# Altium footprint library I2C-SENSOR.PcbLib: 1 footprints
Each footprint in its own frame and in the unit in brackets; x right, y up, seen from the top. Pads: shape width x height; smd on the part's side, far side on the other; paste and mask are expansions set on the pad; w line width, h text height; cw(c..) or ccw(c..) is an arc to the next point about the centre after c.
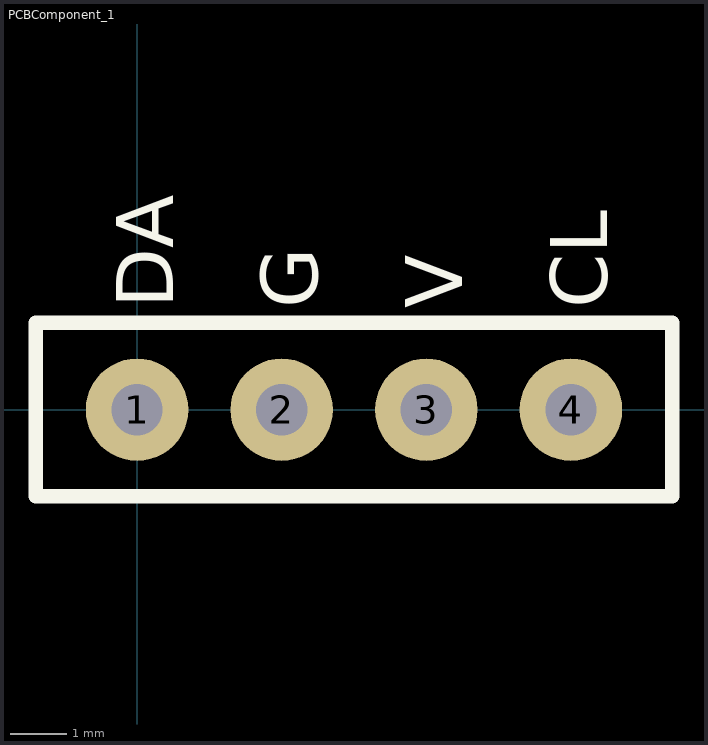
[diagram p0: the footprint, top view; thin cyan lines are the x and y axes]

## PCBComponent_1 [mm]
pads (4):
  round 1.8 hole 0.9: 1(0,0) 2(2.54,0) 3(5.08,0) 4(7.62,0)
Top Overlay:
  lines w0.254: -1.778,-1.524 9.398,-1.524 9.398,1.524 -1.778,1.524 -1.778,-1.524
  text "CL" at 8.255,1.778 h1
  text "V" at 5.715,1.778 h1
  text "G" at 3.175,1.778 h1
  text "DA" at 0.635,1.778 h1